# EAGLE library part ADC3424 (library My_TI)
ADC3424 Quad-Channel, 12-Bit, 25-MSPS to 125-MSPS, Analog-to-Digital Converter • Single Supply: 1.8 V • Serial LVDS Interface Datasheet <http://www.ti.com/lit/ds/symlink/adc3424.pdf>
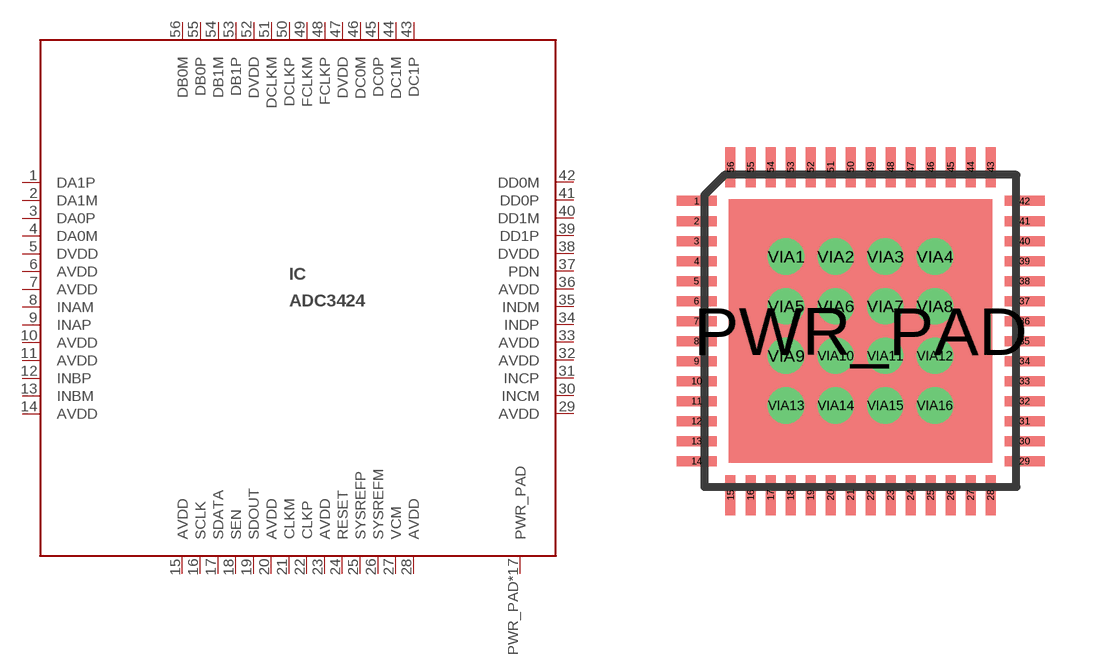
[diagram p40: symbol with the pads of PVQFN56; footprint PVQFN56]

Designator prefix IC

## ADC3424  [PVQFN56]
1  DA1P  out
2  DA1M  out
3  DA0P  out
4  DA0M  out
5  DVDD  in
6  AVDD  in
7  AVDD  in
8  INAM  in
9  INAP  in
10  AVDD  in
11  AVDD  in
12  INBP  in
13  INBM  in
14  AVDD  in
15  AVDD  in
16  SCLK  in
17  SDATA  in
18  SEN  in
19  SDOUT  out
20  AVDD  in
21  CLKM  in
22  CLKP  in
23  AVDD  in
24  RESET  in
25  SYSREFP  in
26  SYSREFM  in
27  VCM  out
28  AVDD  in
29  AVDD  in
30  INCM  in
31  INCP  in
32  AVDD  in
33  AVDD  in
34  INDP  in
35  INDM  in
36  AVDD  in
37  PDN  in
38  DVDD  in
39  DD1P  out
40  DD1M  out
41  DD0P  out
42  DD0M  out
43  DC1P  out
44  DC1M  out
45  DC0P  out
46  DC0M  out
47  DVDD  in
48  FCLKP  out
49  FCLKM  out
50  DCLKP  out
51  DCLKM  out
52  DVDD  in
53  DB1P  out
54  DB1M  out
55  DB0P  out
56  DB0M  out
PWR_PAD  PWR_PAD  in
VIA1  PWR_PAD  in
VIA2  PWR_PAD  in
VIA3  PWR_PAD  in
VIA4  PWR_PAD  in
VIA5  PWR_PAD  in
VIA6  PWR_PAD  in
VIA7  PWR_PAD  in
VIA8  PWR_PAD  in
VIA9  PWR_PAD  in
VIA10  PWR_PAD  in
VIA11  PWR_PAD  in
VIA12  PWR_PAD  in
VIA13  PWR_PAD  in
VIA14  PWR_PAD  in
VIA15  PWR_PAD  in
VIA16  PWR_PAD  in

## Footprint PVQFN56 (pad centres in mm)
PVQFN56 Auto generated by make-symbol-device-package-bsdl.ulp Rev. 44
smd 1 x 0.25: 1 -4.1,3.25; 2 -4.1,2.75; 3 -4.1,2.25; 4 -4.1,1.75; 5 -4.1,1.25; 6 -4.1,0.75; 7 -4.1,0.25; 8 -4.1,-0.25; 9 -4.1,-0.75; 10 -4.1,-1.25; 11 -4.1,-1.75; 12 -4.1,-2.25; 13 -4.1,-2.75; 14 -4.1,-3.25; 29 4.1,-3.25; 30 4.1,-2.75; 31 4.1,-2.25; 32 4.1,-1.75; 33 4.1,-1.25; 34 4.1,-0.75; 35 4.1,-0.25; 36 4.1,0.25; 37 4.1,0.75; 38 4.1,1.25; 39 4.1,1.75; 40 4.1,2.25; 41 4.1,2.75; 42 4.1,3.25
smd 0.25 x 1: 15 -3.25,-4.1; 16 -2.75,-4.1; 17 -2.25,-4.1; 18 -1.75,-4.1; 19 -1.25,-4.1; 20 -0.75,-4.1; 21 -0.25,-4.1; 22 0.25,-4.1; 23 0.75,-4.1; 24 1.25,-4.1; 25 1.75,-4.1; 26 2.25,-4.1; 27 2.75,-4.1; 28 3.25,-4.1; 43 3.25,4.1; 44 2.75,4.1; 45 2.25,4.1; 46 1.75,4.1; 47 1.25,4.1; 48 0.75,4.1; 49 0.25,4.1; 50 -0.25,4.1; 51 -0.75,4.1; 52 -1.25,4.1; 53 -1.75,4.1; 54 -2.25,4.1; 55 -2.75,4.1; 56 -3.25,4.1
smd 6.6 x 6.6: PWR_PAD 0,0
drill 0.4: VIA1 -1.86,1.86; VIA2 -0.62,1.86; VIA3 0.62,1.86; VIA4 1.86,1.86; VIA5 -1.86,0.62; VIA6 -0.62,0.62; VIA7 0.62,0.62; VIA8 1.86,0.62; VIA9 -1.86,-0.62; VIA10 -0.62,-0.62; VIA11 0.62,-0.62; VIA12 1.86,-0.62; VIA13 -1.86,-1.86; VIA14 -0.62,-1.86; VIA15 0.62,-1.86; VIA16 1.86,-1.86